# Altium schematic symbol library TourniquetPCBSch.SchLib: 30 symbols (part 2 of 2)
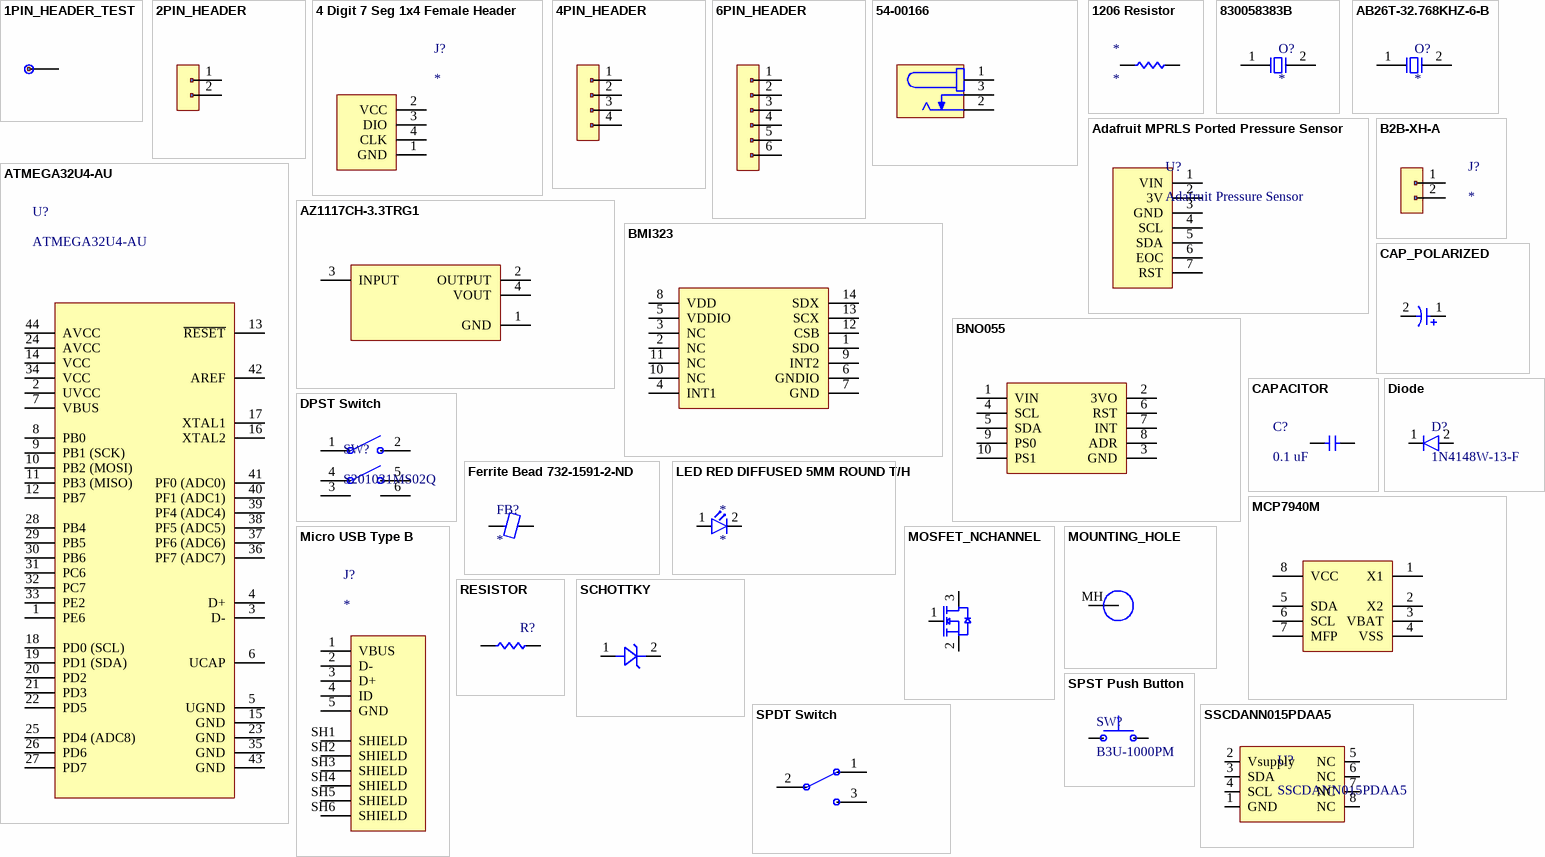
[diagram p1: symbols 1PIN_HEADER_TEST to SSCDANN015PDAA5]

## Micro USB Type B
designator J?
10118194-0001LF; Manufacturer: Molex; Manufacturer Part Number: 105164-0001; Manufacturer Lifecycle Status: ACTIVE; Connector Type: USB; Current Rating: 1.8A; Dielectric Material: Liquid Crystal Polymer; Gender: Female; Max Voltage Rating (AC): 30V; Number of Circuits: 5; Number of Ports: 1; Pitch: 650µm; Plating: Gold; USB Standard: USB 2.0; Supplier: Avnet; Supplier Part Number: 1051640001; RoHS: Compliant; Category: USB Connectors; Stock: 9100; Pricing: 1300=0.47412, 16900=0.40682, 40300=0.38931, 80600=0.36143, 200200=0.329 (USD); China RoHS: Compliant; Color: Black; Contact Gender: Female; Contact Material: Brass; Contact Plating: Gold; Country of Origin: US; Depth: 5.15mm; Flammability Rating: UL94 V-0; Halogen Free: Low Halogen; Height: 2.715mm; Housing Material: Polymer; Length: 7.5mm; Lifecycle Status: Production; Max Operating Temperature: 85°C; Min Operating Temperature: -30°C; Mounting Technology: Horizontal, Surface Mount; Number of Contacts: 5; Pins: 5; Number of Rows: 1; Number of Terminals: 5; Orientation: Right Angle; Radiation Hardening: No; REACH SVHC: Yes; Schedule B: 8536695050; Shell Material: Stainless Steel; Termination: Solder; Voltage Rating: 30V; Voltage Rating (AC): 30V; ComponentLink1URL: https://datasheet.octopart.com:443/105164-0001-Molex-datasheet-138896958.pdf?src-supplier=Upverter; ComponentLink1Description: https://datasheet.octopart.com:443/105164-0001-Molex-datasheet-138896958.pdf?src-supplier=Upverter; ComponentLink2URL: https://sigma.octopart.com:443/138896959/technical_drawing/Molex-105164-0001.pdf?src-supplier=Upverter; ComponentLink2Description: https://sigma.octopart.com:443/138896959/technical_drawing/Molex-105164-0001.pdf?src-supplier=Upverter; ComponentLink3URL: https://datasheet.octopart.com:443/105164-0001-Molex-datasheet-16324421.pdf?src-supplier=Sager+Electronics; ComponentLink3Description: https://datasheet.octopart.com:443/105164-0001-Molex-datasheet-16324421.pdf?src-supplier=Sager+Electronics; ComponentLink4URL: https://sigma.octopart.com:443/16324424/technical_drawing/Molex-105164-0001.pdf?src-supplier=Molex; ComponentLink4Description: https://sigma.octopart.com:443/16324424/technical_drawing/Molex-105164-0001.pdf?src-supplier=Molex; ComponentLink5URL: https://datasheet.octopart.com:443/105164-0001-Molex-datasheet-66419585.pdf?src-supplier=element14+APAC; ComponentLink5Description: https://datasheet.octopart.com:443/105164-0001-Molex-datasheet-66419585.pdf?src-supplier=element14+APAC; ComponentLink6URL: https://datasheet.octopart.com:443/105164-0001-Molex-datasheet-140174757.pdf?src-supplier=RS+(Formerly+Allied+Electronics); ComponentLink6Description: https://datasheet.octopart.com:443/105164-0001-Molex-datasheet-140174757.pdf?src-supplier=RS+(Formerly+Allied+Electronics); ComponentLink7URL: https://datasheet.octopart.com:443/105164-0001-Molex-datasheet-120135208.pdf?src-supplier=RS+(Formerly+Allied+Electronics); ComponentLink7Description: https://datasheet.octopart.com:443/105164-0001-Molex-datasheet-120135208.pdf?src-supplier=RS+(Formerly+Allied+Electronics); ComponentLink8URL: https://datasheet.octopart.com:443/105164-0001-Molex-datasheet-120074113.pdf?src-supplier=TME; ComponentLink8Description: https://datasheet.octopart.com:443/105164-0001-Molex-datasheet-120074113.pdf?src-supplier=TME; ComponentLink9URL: https://datasheet.octopart.com:443/105164-0001-Molex-datasheet-13747870.pdf?src-supplier=_legacy+Avnet; ComponentLink9Description: https://datasheet.octopart.com:443/105164-0001-Molex-datasheet-13747870.pdf?src-supplier=_legacy+Avnet; ComponentLink10URL: http://sigma.octopart.com:80/16324423/rohs_statement/Molex-105164-0001.pdf?src-supplier=Compliance+Statements; ComponentLink10Description: http://sigma.octopart.com:80/16324423/rohs_statement/Molex-105164-0001.pdf?src-supplier=Compliance+Statements; ComponentLink11URL: http://sigma.octopart.com:80/reach_statement/Molex-company-74.pdf?src-supplier=Compliance+Statements; ComponentLink11Description: http://sigma.octopart.com:80/reach_statement/Molex-company-74.pdf?src-supplier=Compliance+Statements; ComponentLink12URL: http://sigma.octopart.com:80/rohs_statement/Molex-company-73.pdf?src-supplier=Compliance+Statements; ComponentLink12Description: http://sigma.octopart.com:80/rohs_statement/Molex-company-73.pdf?src-supplier=Compliance+Statements; ComponentLink13URL: http://sigma.octopart.com:80/conflict_mineral_statement/Molex-company-72.pdf?src-supplier=Compliance+Statements; ComponentLink13Description: http://sigma.octopart.com:80/conflict_mineral_statement/Molex-company-72.pdf?src-supplier=Compliance+Statements
footprint 10118194-0001LF (USB - micro B USB 2.0 Receptacle Connector 5 Position Surface Mount, Right Angle; Through Hole)
pins: 1 VBUS, 2 D-, 3 D+, 4 ID, 5 GND, SH1 SHIELD, SH2 SHIELD, SH3 SHIELD, SH4 SHIELD, SH5 SHIELD, SH6 SHIELD

## MOSFET_NCHANNEL
designator Q?, comment SI2300-TP
Manufacturer: MCC (Micro Commercial Components); Number of Positions: 6; Current Rating: 2A; Voltage Rating: 125V; Gender: Male; Reviewed: No; Part Number: SI2300-TP; Manufacturer Part Number: SI2300-TP; Series: -; Number of Rows: 2; Fastening Type: Latch Holder; Orientation: Vertical; Min Operating Temperature: -55°C; Max Operating Temperature: 105°C; Supplier 1: Digi-Key; Supplier Part Number 1: WM3590-ND; ComponentLink1URL: https://tools.molex.com/pdm_docs/ps/PS-87831-027.pdf; ComponentLink1Description: Datasheet
footprint SOT23
pins: 1 G, 2 S, 3 D

## MOUNTING_HOLE
designator MH?
Part Number: MH; Manufacturer: Molex; Manufacturer Part Number: 0878310641; Number of Positions: 6; Current Rating: 2A; Voltage Rating: 125V; Gender: Male; Reviewed: No; Series: Milli-Grid 87831; Mount: Through Hole; Number of Rows: 2; Fastening Type: Latch Holder; Orientation: Vertical; Min Operating Temperature: -55°C; Max Operating Temperature: 105°C; Supplier 1: Digi-Key; Supplier Part Number 1: WM3590-ND; ComponentLink1URL: https://tools.molex.com/pdm_docs/ps/PS-87831-027.pdf; ComponentLink1Description: Datasheet
footprint 0878310641
pins: MH 0

## RESISTOR
designator R?
Voltage Rating: 75V; Voltage Rating (DC): 50V; Resistance Tolerance: 1%; Resistance: 10kR; Power Rating: 100mW; Temperature Coefficient: 100ppm/°C; Depth: 0.8mm; Termination: SMD/SMT; Resistor Type: Thick Film; Series: RC; Construction: Rectangular; Features: Moisture Resistant; Packaging: Tape and Reel; Min Operating Temperature: -55°C; Number of Terminations: 2; Lead Pitch: 0.3mm; RoHS Compliant: Yes; Case/Package: 0603; Military Standard: Not; Weight: 7.1E-05oz; Number of Pins: 2; Tolerance: 1%; Length: 1.6mm; Case Code (Imperial): 0603; Lead Free: Lead Free; Width: 0.8mm; Max Power Dissipation: 100mW; Height: 0.45mm; Max Operating Temperature: 155°C; Case Code (Metric): 1608; Size Code: 0603
footprint 0603_RES
pins: 1, 2

## SCHOTTKY
designator D?, comment B240AQ-13-F
Manufacturer: Diodes Incorporated; Current Rating: 2A; Voltage Rating: 40; Reviewed: No; Part Number: B240AQ-13-F; Manufacturer Part Number: B240AQ-13-F; Series: -; Mount: Surface; Supplier Part Number 1: WM3590-ND; ComponentLink1URL: https://tools.molex.com/pdm_docs/ps/PS-87831-027.pdf; ComponentLink1Description: Datasheet
footprint SMA
pins: 1 A, 2 K

## SPDT Switch
designator SW?, comment 500SSP1S1M2QEA
Slide Switch SPDT Through Hole; Manufacturer: Molex; Manufacturer Part Number: 0878310641; Number of Positions: 6; Current Rating: 2A; Voltage Rating: 125V; Gender: Male; Reviewed: No; Part Number: 500SSP1S1M2QEA; Series: Milli-Grid 87831; Mount: Through Hole; Number of Rows: 2; Fastening Type: Latch Holder; Orientation: Vertical; Min Operating Temperature: -55°C; Max Operating Temperature: 105°C; Supplier 1: Digi-Key; Supplier Part Number 1: WM3590-ND; ComponentLink1URL: https://tools.molex.com/pdm_docs/ps/PS-87831-027.pdf; ComponentLink1Description: Datasheet
footprint SPDT
pins: 1 SCL, 2 COMMON, 3

## SPST Push Button
designator SW?, comment B3U-1000PM
Switch Tactile N.O. SPST Round Button Gull Wing 0.05A 12VDC 1.5N SMD Embossed T/R; Manufacturer: Omron; Manufacturer Part Number: B3U-1100PM; Actuator Length: 400µm; Connector Type: SMD/SMT; Contact Current Rating: 50mA; Contact Resistance: 100mΩ; Electrical Life: 200kcycles; Illumination Type: Illuminated, Non-Illuminated; Max Voltage Rating (DC): 12V; Number of Positions: 1; Ratings: Dust Proof; Sealable: IP40; Switch Function: Off-Mom; Switch Travel: 150µm; Supplier: DigiKey; Supplier Part Number: SW1451CT-ND; RoHS: Compliant; Category: Tactile Switches; Stock: 1875; Pricing: 1=0.77, 10=0.77 (USD); Ambient Temperature Range High: 70°C; Case/Package: SMD/SMT; Color: Black; Contact Plating: Silver; Current Rating: 50mA; Height: 1.2mm; Insulation Resistance: 100MΩ; Length: 3mm; Life (Cycles): 200kcycles; Lifecycle Status: Production; Max Operating Temperature: 70°C; Mechanical Life: 200kcycles; Min Operating Temperature: -25°C; Mounting Technology: Surface Mount; Operating Force: 1.5N; Orientation: Straight; Packaging: Digi-Reel®; REACH SVHC: No; Termination: SMD/SMT; Throw Configuration: SPST; Voltage Rating (DC): 12V; Weight: 22mg; ComponentLink1URL: https://datasheet.octopart.com:443/B3U-1100PM-Omron-datasheet-62106914.pdf?src-supplier=IHS; ComponentLink1Description: https://datasheet.octopart.com:443/B3U-1100PM-Omron-datasheet-62106914.pdf?src-supplier=IHS; ComponentLink2URL: https://datasheet.octopart.com:443/B3U-1100PM-Omron-datasheet-10910421.pdf?src-supplier=Omron; ComponentLink2Description: https://datasheet.octopart.com:443/B3U-1100PM-Omron-datasheet-10910421.pdf?src-supplier=Omron; ComponentLink3URL: https://datasheet.octopart.com:443/B3U-1100PM-Omron-datasheet-17589256.pdf?src-supplier=Farnell; ComponentLink3Description: https://datasheet.octopart.com:443/B3U-1100PM-Omron-datasheet-17589256.pdf?src-supplier=Farnell; ComponentLink4URL: https://datasheet.octopart.com:443/B3U-1100PM-Omron-datasheet-5458533.pdf?src-supplier=Sager+Electronics; ComponentLink4Description: https://datasheet.octopart.com:443/B3U-1100PM-Omron-datasheet-5458533.pdf?src-supplier=Sager+Electronics; ComponentLink5URL: https://datasheet.octopart.com:443/B3U-1100PM-Omron-datasheet-110759174.pdf?src-supplier=Newark; ComponentLink5Description: https://datasheet.octopart.com:443/B3U-1100PM-Omron-datasheet-110759174.pdf?src-supplier=Newark; ComponentLink6URL: https://datasheet.octopart.com:443/B3U-1100PM-Omron-datasheet-156114341.pdf?src-supplier=TME; ComponentLink6Description: https://datasheet.octopart.com:443/B3U-1100PM-Omron-datasheet-156114341.pdf?src-supplier=TME
footprint Push Button
pins: 1, 2

## SSCDANN015PDAA5
designator U?
Pressure Sensor ±15PSI (±103.42kPa) Differential Male - 0.19" (4.93mm) Tube 0.5 V ~ 4.5 V 8-DIP (0.524", 13.30mm), Top Port; Manufacturer: Sullins; Manufacturer Part Number: NPTC041KFXC-RC; Connector Type: Header, Socket; Current Rating: 3A; Dielectric Material: Polyamide; Number of Positions: 4; Pitch: 2.54mm; Supplier: DigiKey; Supplier Part Number: S5596-ND; RoHS: Compliant; Category: Card Edge Connectors; Stock: 44539; Pricing: 1=0.57, 58=0.43086, 116=0.41026, 522=0.36887, 1044=0.35125, 5046=0.31428, 10034=0.30044 (USD); Color: Black; Contact Gender: Female; Contact Material: Bronze; Contact Plating: Tin; Height: 7.1mm; Housing Color: Black; Housing Material: Nylon; Lead Free: Lead Free; Length: 10.2mm; Lifecycle Status: Production; Mounting Technology: Surface Mount; Pins: 4; Number of Rows: 2; Packaging: Bulk; REACH SVHC: Yes; Terminal Pitch: 5.08mm; Termination: Solder; Width: 2.5mm; ComponentLink1URL: https://datasheet.octopart.com:443/NPTC041KFXC-RC-Sullins-datasheet-138810743.pdf?src-supplier=IHS; ComponentLink1Description: https://datasheet.octopart.com:443/NPTC041KFXC-RC-Sullins-datasheet-138810743.pdf?src-supplier=IHS; ComponentLink2URL: https://datasheet.octopart.com:443/NPTC041KFXC-RC-Sullins-datasheet-41308905.pdf?src-supplier=Future+Electronics; ComponentLink2Description: https://datasheet.octopart.com:443/NPTC041KFXC-RC-Sullins-datasheet-41308905.pdf?src-supplier=Future+Electronics; ComponentLink3URL: https://datasheet.octopart.com:443/NPTC041KFXC-RC-Sullins-datasheet-120059.pdf?src-supplier=DigiKey; ComponentLink3Description: https://datasheet.octopart.com:443/NPTC041KFXC-RC-Sullins-datasheet-120059.pdf?src-supplier=DigiKey
footprint SSCDANN015PDAA5
pins: 1 GND, 2 Vsupply, 3 SDA, 4 SCL, 5 NC, 6 NC, 7 NC, 8 NC